# EAGLE library part MINI32_V1.0.0 (library GIX)
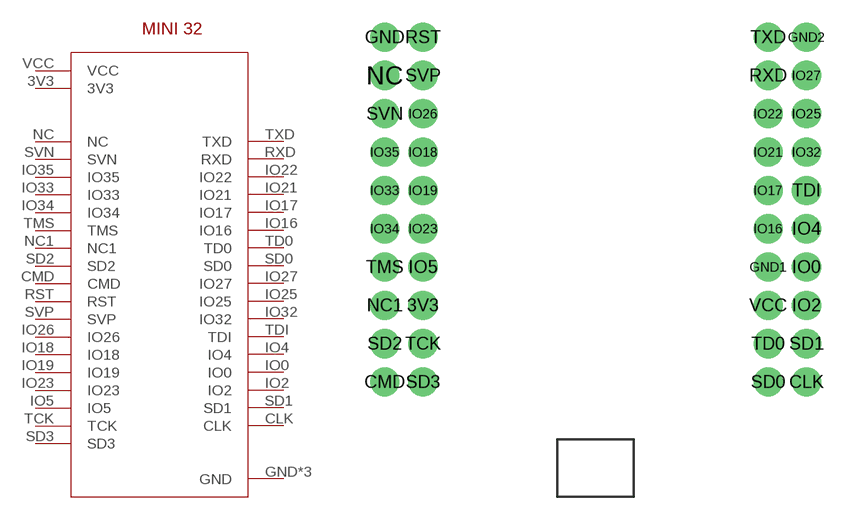
[diagram p3: symbol with the pads of MINI32_V1.0.0; footprint MINI32_V1.0.0]

Designator prefix -

## MINI32_V1.0.0  [MINI32_V1.0.0]
3V3  3V3
CLK  CLK
CMD  CMD
GND  GND
GND1  GND
GND2  GND
IO0  IO0
IO2  IO2
IO4  IO4
IO5  IO5
IO16  IO16
IO17  IO17
IO18  IO18
IO19  IO19
IO21  IO21
IO22  IO22
IO23  IO23
IO25  IO25
IO26  IO26
IO27  IO27
IO32  IO32
IO33  IO33
IO34  IO34
IO35  IO35
NC  NC
NC1  NC1
RST  RST
RXD  RXD
SD0  SD0
SD1  SD1
SD2  SD2
SD3  SD3
SVN  SVN
SVP  SVP
TCK  TCK
TD0  TD0
TDI  TDI
TMS  TMS
TXD  TXD
VCC  VCC

## Footprint MINI32_V1.0.0 (pad centres in mm)
drill 1.016 pad 1.93: 3V3 -11.43,-6.35; CLK 13.97,-11.43; CMD -13.97,-11.43; GND -13.97,11.43; GND1 11.43,-3.81; GND2 13.97,11.43; IO0 13.97,-3.81; IO2 13.97,-6.35; IO4 13.97,-1.27; IO5 -11.43,-3.81; IO16 11.43,-1.27; IO17 11.43,1.27; IO18 -11.43,3.81; IO19 -11.43,1.27; IO21 11.43,3.81; IO22 11.43,6.35; IO23 -11.43,-1.27; IO25 13.97,6.35; IO26 -11.43,6.35; IO27 13.97,8.89; IO32 13.97,3.81; IO33 -13.97,1.27; IO34 -13.97,-1.27; IO35 -13.97,3.81; NC -13.97,8.89; NC1 -13.97,-6.35; RST -11.43,11.43; RXD 11.43,8.89; SD0 11.43,-11.43; SD1 13.97,-8.89; SD2 -13.97,-8.89; SD3 -11.43,-11.43; SVN -13.97,6.35; SVP -11.43,8.89; TCK -11.43,-8.89; TD0 11.43,-8.89; TDI 13.97,1.27; TMS -13.97,-3.81; TXD 11.43,11.43; VCC 11.43,-6.35